# Altium schematic symbol library 1P2T.SchLib: 1 symbol
Pins are listed as number, name and electrical type; pins without a type are passive.

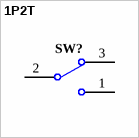
[diagram p0: symbol 1P2T]

## 1P2T
designator SW?
pins: 1, 2, 3